# EAGLE library part REF5025 (library Dmitry)
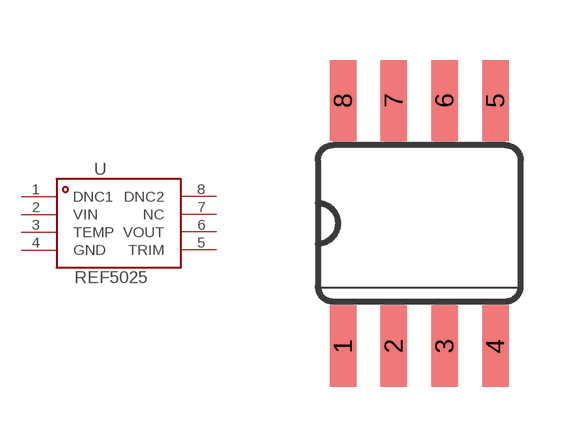
[diagram p25: symbol with the pads of SO08; footprint SO08]

Designator prefix U

## REF5025  [SO08]
1  DNC1
2  VIN
3  TEMP
4  GND
5  TRIM
6  VOUT
7  NC
8  DNC2

## Footprint SO08 (pad centres in mm)
Small Outline Package SOIC 150 mil
smd 0.66 x 2.032: 1 -1.905,-3.073; 2 -0.635,-3.073; 3 0.635,-3.073; 4 1.905,-3.073; 5 1.905,3.073; 6 0.635,3.073; 7 -0.635,3.073; 8 -1.905,3.073